# Altium schematic symbol library BATT-CR2032.SchLib: 1 symbol
Pins are listed as number, name and electrical type; pins without a type are passive.

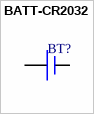
[diagram p0: symbol BATT-CR2032]

## BATT-CR2032
designator BT?
CR2032 Battery holder
pins: 1 +, 2 -